# Altium schematic symbol library Schlib1.SchLib: 1 symbol
Pins are listed as number, name and electrical type; pins without a type are passive.

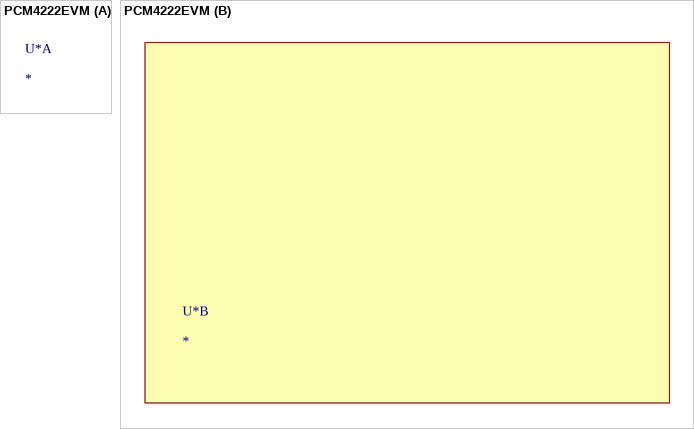
[diagram p0: symbol PCM4222EVM]

## PCM4222EVM
designator U*
Audio Evaluation Module; Manufactorer: Texas Instruments; Manufactorer Part Nummer: PCM4222EVM